# Altium schematic symbol library CONN Superseal 60POS.SchLib: 1 symbol
Pins are listed as number, name and electrical type; pins without a type are passive.

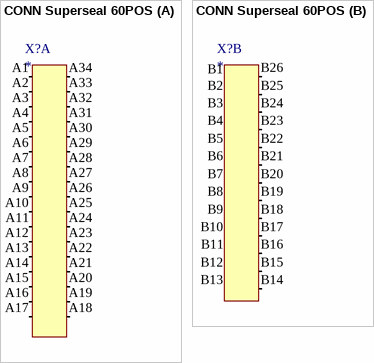
[diagram p0: symbol CONN Superseal 60POS]

## CONN Superseal 60POS
designator X?
MfrPartNo: *
part A pins: A1 (io), A2 (io), A3 (io), A4 (io), A5 (io), A6 (io), A7 (io), A8 (io), A9 (io), A10 (io), A11 (io), A12 (io), A13 (io), A14 (io), A15 (io), A16 (io), A17 (io), A18 (io), A19 (io), A20 (io), A21 (io), A22 (io), A23 (io), A24 (io), A25 (io), A26 (io), A27 (io), A28 (io), A29 (io), A30 (io), A31 (io), A32 (io), A33 (io), A34 (io)
part B pins: B1 (io), B2 (io), B3 (io), B4 (io), B5 (io), B6 (io), B7 (io), B8 (io), B9 (io), B10 (io), B11 (io), B12 (io), B13 (io), B14 (io), B15 (io), B16 (io), B17 (io), B18 (io), B19 (io), B20 (io), B21 (io), B22 (io), B23 (io), B24 (io), B25 (io), B26 (io)